# Altium footprint library LQFN48.PcbLib: 1 footprints
Each footprint in its own frame and in the unit in brackets; x right, y up, seen from the top. Pads: shape width x height; smd on the part's side, far side on the other; paste and mask are expansions set on the pad; w line width, h text height; cw(c..) or ccw(c..) is an arc to the next point about the centre after c.
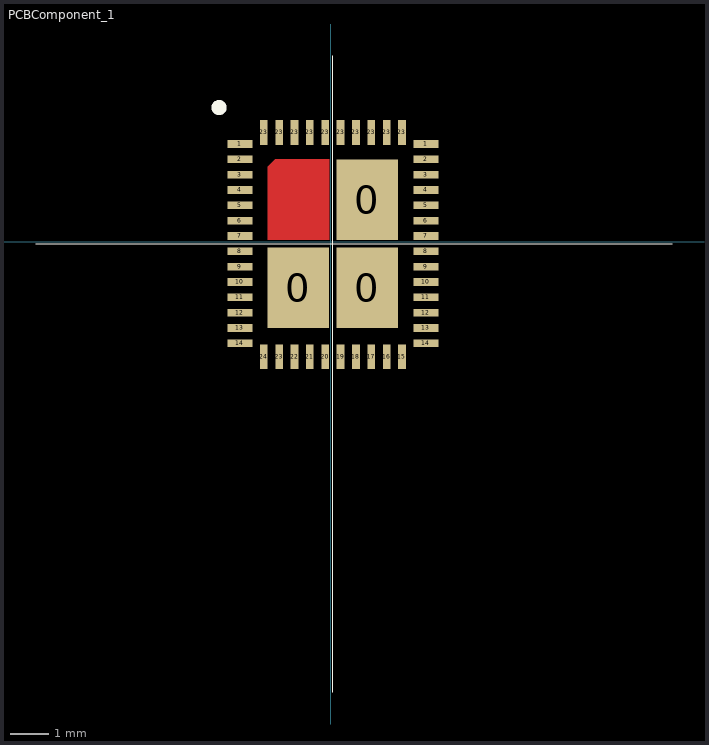
[diagram p0: the footprint, top view; thin cyan lines are the x and y axes]

## PCBComponent_1 [mm]
pads (51):
  rect 1.6x2.1 smd: 0(-0.85,-1.2) 0(0.95,-1.2) 0(0.95,1.1)
  rect 0.65x0.2 smd: 1(-2.375,2.55) 1(2.475,2.55) 2(-2.375,2.15) 2(2.475,2.15) 3(-2.375,1.75) 3(2.475,1.75) 4(-2.375,1.35) 4(2.475,1.35) 5(-2.375,0.95) 5(2.475,0.95) 6(-2.375,0.55) 6(2.475,0.55) 7(-2.375,0.15) 7(2.475,0.15) 8(-2.375,-0.25) 8(2.475,-0.25) 9(-2.375,-0.65) 9(2.475,-0.65) 10(-2.375,-1.05) 10(2.475,-1.05) 11(-2.375,-1.45) 11(2.475,-1.45) 12(-2.375,-1.85) 12(2.475,-1.85) 13(-2.375,-2.25) 13(2.475,-2.25) 14(-2.375,-2.65) 14(2.475,-2.65)
  rect 0.2x0.65 smd: 15(1.85,-3) 16(1.45,-3) 17(1.05,-3) 18(0.65,-3) 19(0.25,-3) 20(-0.15,-3) 21(-0.55,-3) 22(-0.95,-3) 23(-1.75,2.85) 23(-1.35,-3) 23(-1.35,2.85) 23(-0.95,2.85) 23(-0.55,2.85) 23(-0.15,2.85) 23(0.25,2.85) 23(0.65,2.85) 23(1.05,2.85) 23(1.45,2.85) 23(1.85,2.85) 24(-1.75,-3)
Top Layer:
  region: -1.45,2.15 -1.65,1.95 -1.65,0.05 -0.05,0.05 -0.05,2.15
Top Overlay:
  circle w0.254: c-2.921,3.5 r0.071
  lines w0.025: -7.7,-0.05 8.9,-0.05 ; 0.05,-11.75 0.05,4.85